# EAGLE library part DVI-* (library VideoConnectors)
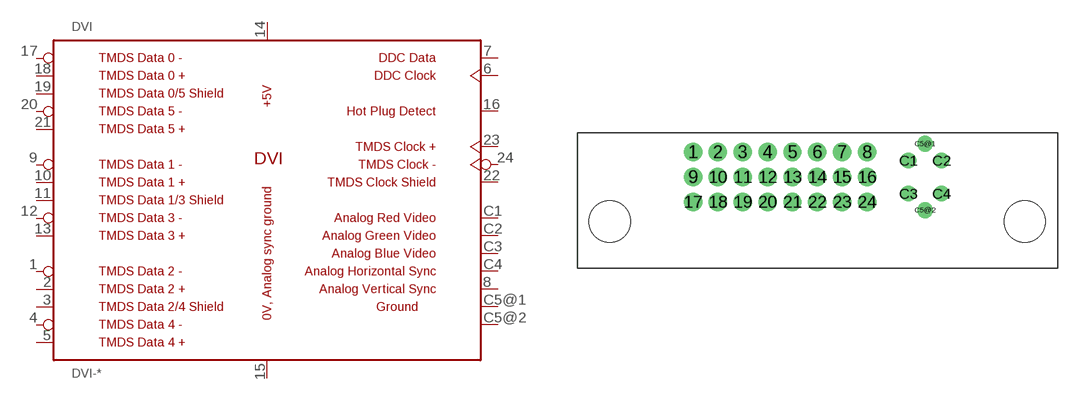
[diagram p1: symbol with the pads of MOLEX-DVI-74320-9014; footprint MOLEX-DVI-74320-9014]

Designator prefix DVI

## DVI-MOLEX  [MOLEX-DVI-74320-9014]
1  TDMS-D2-
2  TDMS-D2+
3  TDMS-2/4-SHIELD  pas
4  TDMS-D4-
5  TDMS-D4+
6  DDC-C
7  DDC-D
8  VGA-VSYNC
9  TDMS-D1-
10  TDMS-D1+
11  TDMS-1/3-SHIELD  pas
12  TDMS-D3-
13  TDMS-D3+
14  +5V  pwr
15  GND  pwr
16  DVI-HOTPLUG  pas
17  TDMS-D0-
18  TDMS-D0+
19  TDMS-0/5-SHIELD  pas
20  TDMS-D5-
21  TDMS-D5+
22  TDMS-CLK-SHIELD
23  TDMS-CLK+
24  TDMS-CLK-
C1  VGA-R
C2  VGA-G
C3  VGA-B
C4  VGA-HSYNC
C5@1  GND
C5@2  GND

## Footprint MOLEX-DVI-74320-9014 (pad centres in mm)
drill 0.9 round: 1 -9.55,8.89; 2 -7.645,8.89; 3 -5.74,8.89; 4 -3.835,8.89; 5 -1.93,8.89; 6 -0.025,8.89; 7 1.88,8.89; 8 3.785,8.89; 9 -9.55,6.985; 10 -7.645,6.985; 11 -5.74,6.985; 12 -3.835,6.985; 13 -1.93,6.985; 14 -0.025,6.985; 15 1.88,6.985; 16 3.785,6.985; 17 -9.55,5.08; 18 -7.645,5.08; 19 -5.74,5.08; 20 -3.835,5.08; 21 -1.93,5.08; 22 -0.025,5.08; 23 1.88,5.08; 24 3.785,5.08
drill 0.7 pad 1.016 round: C1 6.96,8.255; C2 9.5,8.255; C3 6.96,5.715; C4 9.5,5.715; C5@1 8.23,9.525; C5@2 8.23,4.445
hole 3.175 at -15.926,3.581
hole 3.175 at 15.875,3.581